# EAGLE library part DPDT (library gm-switches)
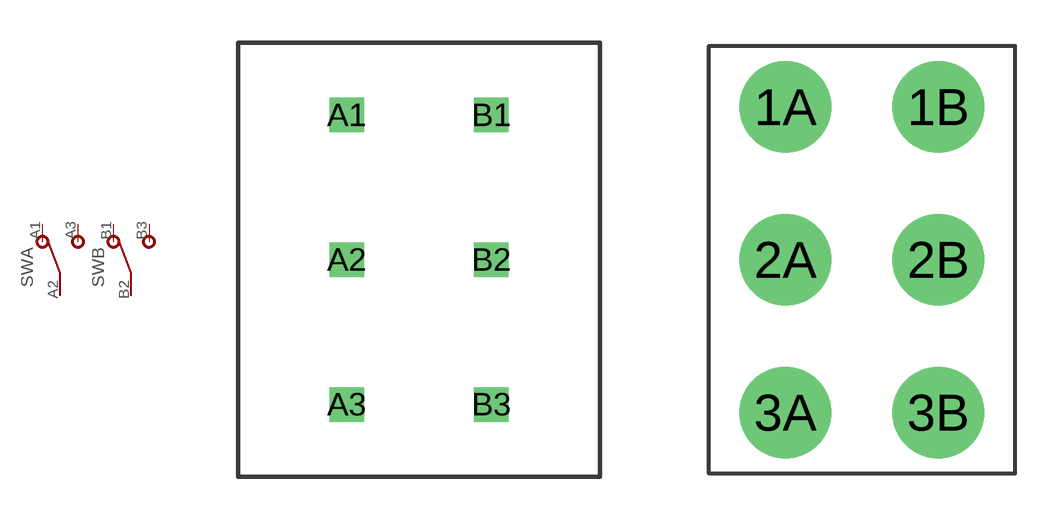
[diagram p2: symbol with the pads of DPDT; footprints DPDT, DPDT_BIGHOLE]

Designator prefix SW; gates A=SPDT B=SPDT

## DPDT  [DPDT]
A1  A:1  pas
A2  A:2  pas
A3  A:3  pas
B1  B:1  pas
B2  B:2  pas
B3  B:3  pas

## DPDTBIGHOLE  [DPDT_BIGHOLE]
1A  A:1  pas
1B  B:1  pas
2A  A:2  pas
2B  B:2  pas
3A  A:3  pas
3B  B:3  pas

## Footprint DPDT (pad centres in mm)
drill 0.7 square: A1 -2.54,5.08; A2 -2.54,0; A3 -2.54,-5.08; B1 2.54,5.08; B2 2.54,0; B3 2.54,-5.08

## Footprint DPDT_BIGHOLE (pad centres in mm)
drill 2: 1A -2.5,5; 1B 2.5,5; 2A -2.5,0; 2B 2.5,0; 3A -2.5,-5; 3B 2.5,-5